# Altium footprint library PcbLib1.PcbLib: 34 footprints (part 1 of 3)
Each footprint in its own frame and in the unit in brackets; x right, y up, seen from the top. Pads: shape width x height; smd on the part's side, far side on the other; paste and mask are expansions set on the pad; w line width, h text height; cw(c..) or ccw(c..) is an arc to the next point about the centre after c.
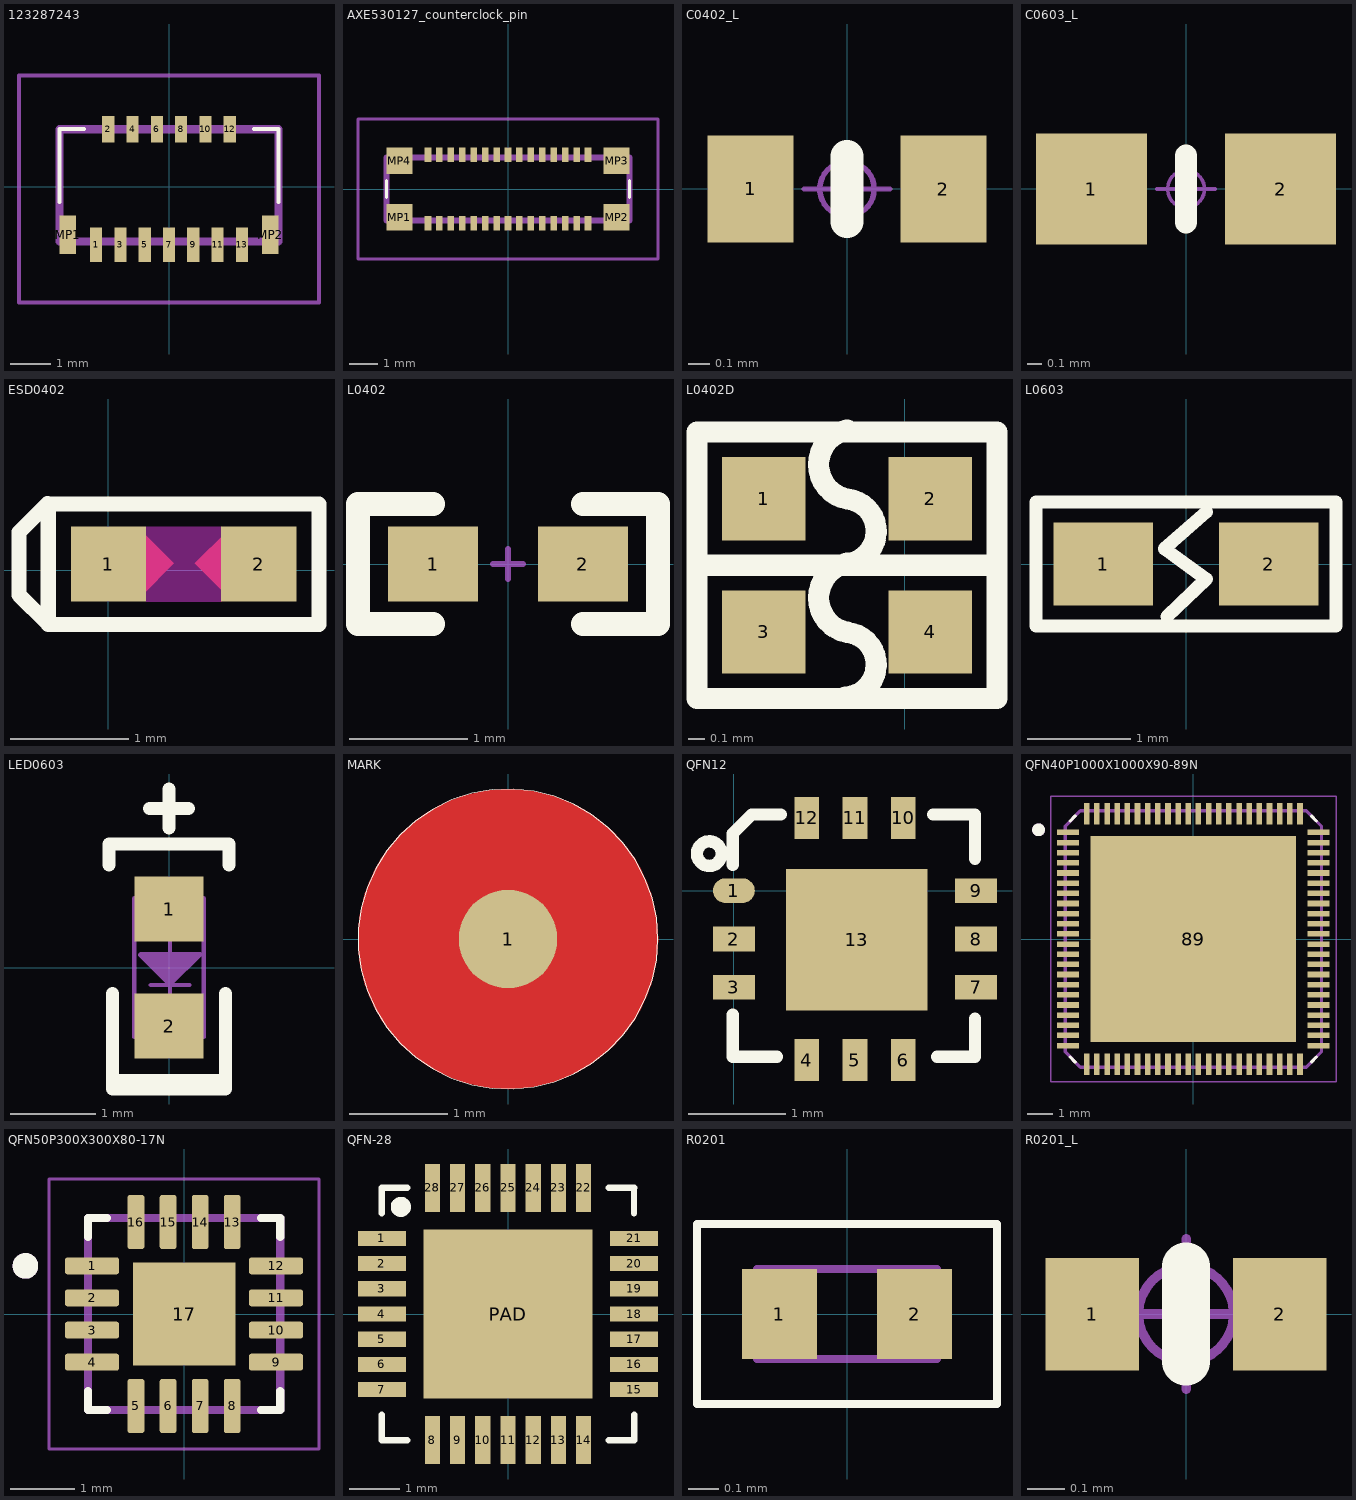
[diagram p0: the footprints below, top view; thin cyan lines are the x and y axes]

## 123287243 [mm]
pads (15):
  rect 0.3x0.85 smd: 1(-1.8,-1.425) 3(-1.2,-1.425) 5(-0.6,-1.425) 7(0,-1.425) 9(0.6,-1.425) 11(1.2,-1.425) 13(1.8,-1.425)
  rect 0.3x0.65 smd: 2(-1.5,1.425) 4(-0.9,1.425) 6(-0.3,1.425) 8(0.3,1.425) 10(0.9,1.425) 12(1.5,1.425)
  rect 0.4x0.95 smd: MP1(-2.5,-1.175) MP2(2.5,-1.175)
Top Overlay:
  lines w0.1: -2.7,-0.375 -2.7,1.425 -2.1,1.425 ; 2.1,1.425 2.7,1.425 2.7,-0.375
Mechanical 13:
  lines w0.2: -2.7,-1.345 -2.7,1.425 2.7,1.425 2.7,-1.345 -2.7,-1.345
Mechanical 15:
  lines w0.1: -3.7,-2.85 -3.7,2.75 3.7,2.75 3.7,-2.85 -3.7,-2.85
3D body "1-2328724-3.stp": height 1, standoff 0, extent -2.7,-1.957 2.7,1.52

## AXE530127_counterclock_pin [mm]
pads (34):
  rect 0.23x0.5 smd: 1(2.8,-1.2) 2(2.4,-1.2) 3(2,-1.2) 4(1.6,-1.2) 5(1.2,-1.2) 6(0.8,-1.2) 7(0.4,-1.2) 8(0,-1.2) 9(-0.4,-1.2) 10(-0.8,-1.2) 11(-1.2,-1.2) 12(-1.6,-1.2) 13(-2,-1.2) 14(-2.4,-1.2) 15(-2.8,-1.2) 16(-2.8,1.2) 17(-2.4,1.2) 18(-2,1.2) 19(-1.6,1.2) 20(-1.2,1.2) 21(-0.8,1.2) 22(-0.4,1.2) 23(0,1.2) 24(0.4,1.2) 25(0.8,1.2) 26(1.2,1.2) 27(1.6,1.2) 28(2,1.2) 29(2.4,1.2) 30(2.8,1.2)
  rect 0.9x0.92 smd: MP1(-3.8,-0.99) MP2(3.8,-0.99) MP3(3.8,0.99) MP4(-3.8,0.99)
Top Overlay:
  lines w0.1: -4.25,-0.3 -4.25,0.3 ; 4.25,-0.3 4.25,0.3
Mechanical 13:
  lines w0.2: -4.25,-1.1 4.25,-1.1 4.25,1.1 -4.25,1.1 -4.25,-1.1
Mechanical 15:
  lines w0.1: -5.25,-2.45 5.25,-2.45 5.25,2.45 -5.25,2.45 -5.25,-2.45
3D body "AXE530127.stp": height 1.07, standoff 0, extent -4.25,-1.427 4.25,1.427

## C0402_L [mm] "无极性贴片电容"
pads (2):
  rect 0.4x0.5 smd: 1(-0.45,0) 2(0.45,0)
Top Overlay:
  lines w0.152: 0,-0.152 0,0.152
Mechanical 15:
  circle w0.025: c0,0 r0.127
  lines w0.025: -0.2,0 0.2,0 ; 0,-0.2 0,0.2
3D body "c_0402.STEP": height 0.54, standoff 0.02, extent -0.5,-0.26 0.5,0.26

## C0603_L [mil] "无极性贴片电容"
pads (2):
  rect 30x30 smd: 1(-25.59,0) 2(25.59,0)
Top Overlay:
  lines w6: 0,-9 0,9
Mechanical 15:
  circle w1: c0,0 r5
  lines w1: -7.87,0 7.87,0 ; 0,-7.87 0,7.87
3D body "c_0603.STEP": height 32.89, standoff 0.61, extent -31.49,-16.14 31.51,16.14

## ESD0402 [mil]
pads (2):
  rect 25x25 smd: 1(0,2) 2(50,2)
Top Layer:
  region: 13,-4.5 19.5,2 12.75,8.75 12.75,-4 13,-4
  region: 11,-8.5 21.75,2.25 10.75,13.25 10.75,-8 11,-8
  region: 37.5,9 31,2.5 37.75,-4.25 37.75,8.5 37.5,8.5
  region: 39.5,13 28.75,2.25 39.75,-8.75 39.75,12.5 39.5,12.5
  lines w2: 5.5,-5 13,-5 ; 5.5,9.5 13,9.5 ; 7,-3.5 14.5,-3.5 ; 7,8 14.5,8 ; 8,6.5 15.5,6.5 ; 8.5,-2 16,-2 ; 9,5.5 16.5,5.5 ; 9.5,-0.5 17,-0.5 ; 10,4.5 17.5,4.5 ; 11,0.5 18.5,0.5 ; 11.5,3.5 19,3.5 ; 12,1.5 19.5,1.5 ; 12.5,2.5 20,2.5 ; 30.5,2 38,2 ; 31,3 38.5,3 ; 31.5,1 39,1 ; 32,4 39.5,4 ; 33,0 40.5,0 ; 33.5,5 41,5 ; 34,-1 41.5,-1 ; 34.5,6.5 42,6.5 ; 35,-2 42.5,-2 ; 36,-3.5 43.5,-3.5 ; 36,8 43.5,8 ; 37.5,-5 45,-5 ; 37.5,9.5 45,9.5
Top Layer keep-out:
  region: 12.5,14.5 37.5,14.5 37.5,-10.5 12.5,-10.5
Top Overlay:
  lines w5: -20.28,-17.69 -29.72,-8.24 -29.72,12.63 -20.28,22.08 ; -20,-18 70,-18 70,22 -20,22 -20,-18
Top Solder:
  region: -14.76,17.35 -14.76,-13.35 15.94,-13.35 15.94,-9.02 21.06,-3.91 28.94,-3.91 33.86,-8.83 33.86,-13.35 65.16,-13.35 65.16,17.35 34.06,17.35 34.06,12.63 29.13,7.71 21.06,7.71 16.44,12.33 16.44,17.35
3D body: height 19.68, standoff 0, extent -5,-10 50,15

## L0402 [mil] "小功率贴片电感"
pads (2):
  rect 30x25 smd: 1(-25,0) 2(25,0)
Top Overlay:
  lines w8: -25,-20 -50,-20 -50,20 -40,20 -25,20 ; 25,-20 50,-20 50,20 25,20
Mechanical 15:
  lines w2: -5,0 5,0 ; 0,-5 0,5
3D body "l0402.STEP": height 19.68, standoff 0, extent -19.68,-9.84 19.69,9.85

## L0402D [mm]
pads (4):
  rect 0.5x0.5 smd: 1(-0.847,-0.625) 2(0.153,-0.625) 3(-0.847,-1.425) 4(0.153,-1.425)
Top Overlay:
  lines w0.127: -0.357,-1.816 ccw(c-0.367,-1.621) -0.346,-1.427 cw(c-0.307,-1.22) -0.346,-1.013 ; -0.346,-1.013 -0.357,-1.015 ccw(c-0.367,-0.821) -0.346,-0.627 cw(c-0.307,-0.42) -0.346,-0.213 ; -1.247,-1.025 -1.247,-0.225 0.553,-0.225 0.553,-1.025 ; -1.247,-1.025 -1.247,-1.825 0.553,-1.825 0.553,-1.025 ; -1.247,-1.025 0.553,-1.025
3D body: height 0.51, standoff 0, extent -1.143,-1.778 0.508,-0.254
3D body: height 0.25, standoff 0, extent -0.254,-1.143 -0.254,-1.143
3D body: height 0.25, standoff 0, extent -0.254,-1.143 -0.254,-1.143

## L0603 [mm]
pads (2):
  rect 0.965x0.8 smd mask+0.05: 1(-0.8,0) 2(0.8,0)
Top Overlay:
  lines w0.127: -0.185,-0.509 0.195,-0.145 -0.206,0.148 0.195,0.503 ; -1.45,-0.6 1.45,-0.6 1.45,0.6 -1.45,0.6 -1.45,-0.6

## LED0603 [mil]
pads (2):
  rect 32x30 smd mask+2: 1(0,27) 2(0,-27)
Top Overlay:
  lines w6: -27.6,47.3 -27.6,57.1 27.6,57.1 27.6,47.3 ; -26,-51 -26,-56 26,-56 26,-52 ; -26,-12 -26,-52 26,-52 ; -9.11,73.5 8.89,73.5 ; -0.11,64.5 -0.11,82.5 ; 26,-12 26,-52
Mechanical 1:
  lines w2: -12.5,-26 -12.5,-29.5 ; -9,-29.5 -12.5,-29.5 ; -8.5,-25.5 -12.5,-29.5 ; -8.5,-8 9.5,-8 ; -8.5,5.5 9.5,5.5 ; -5,-26 -5,-29.5 ; -1.5,-29.5 -5,-29.5 ; -1,-25.5 -5,-29.5 ; 0.3,1.2 0.3,1.9 3.1,1.9 3.6,2.5 -1.8,2.5 -2.2,2.1 0.3,-0.3 1.4,-0.3 5.2,3.5 -5,3.5 -5,3.2 -0.2,-1.6 2.2,-1.6 7.5,3.7 6.8,4.4 -7.9,4.4 -0.2,-3.3 1.9,-3.3 9.8,4.6 9.1,5.3 -10.7,5.3 -10.7,4.8 -10.2,4.2 -10.2,5.6 -9.6,6.2 ; 0.5,-17 0.5,1 ; 0.5,-3.5 0.5,14.5 ; 4,-26 4,-29.5 ; 7.5,-29.5 4,-29.5 ; 8,-25.5 4,-29.5 ; 10,-26 10,-29.5 ; 13.5,-29.5 10,-29.5 ; 14,-25.5 10,-29.5 ; -9.6,6.2 -9.6,4.1 0.1,-5.6 0.5,-5.6 11.5,5.5 10.7,6.2 -13.1,6.2 -13.4,6 -13.4,5.9 0.3,-7.8 0.4,-7.8 14.4,6.2 -9.6,6.2 ; -16,-32 -16,32 16,32 16,-32 -16,-32

## MARK [mm]
pads (1):
  round 1 smd mask+0.05: 1(0,0)
Top Layer:
  pour cut-out: 1.524,0 1.523,0.066 1.519,0.133 1.511,0.199 1.501,0.265 1.488,0.33 1.472,0.395 1.454,0.458 1.432,0.521 1.408,0.583 1.382,0.644 1.352,0.704 1.32,0.762 1.286,0.819 1.249,0.874 1.209,0.928 1.168,0.98 1.124,1.03 1.078,1.078 1.03,1.124 0.98,1.168 0.928,1.209 0.874,1.249 0.819,1.286 0.762,1.32 0.704,1.352 0.644,1.382 0.583,1.408 0.521,1.432 0.458,1.454 0.395,1.472 0.33,1.488 0.265,1.501 0.199,1.511 0.133,1.519 0.066,1.523 0,1.524 -0.066,1.523 -0.133,1.519 -0.199,1.511 -0.265,1.501 -0.33,1.488 -0.395,1.472 -0.458,1.454 -0.521,1.432 -0.583,1.408 -0.644,1.382 -0.704,1.352 -0.762,1.32 -0.819,1.286 -0.874,1.249 -0.928,1.209 -0.98,1.168 -1.03,1.124 -1.078,1.078 -1.124,1.03 -1.168,0.98 -1.209,0.928 -1.249,0.874 -1.286,0.819 -1.32,0.762 -1.352,0.704 -1.382,0.644 -1.408,0.583 -1.432,0.521 -1.454,0.458 -1.472,0.395 -1.488,0.33 -1.501,0.265 -1.511,0.199 -1.519,0.133 -1.523,0.066 -1.524,0 -1.523,-0.066 -1.519,-0.133 -1.511,-0.199 -1.501,-0.265 -1.488,-0.33 -1.472,-0.395 -1.454,-0.458 -1.432,-0.521 -1.408,-0.583 -1.382,-0.644 -1.352,-0.704 -1.32,-0.762 -1.286,-0.819 -1.249,-0.874 -1.209,-0.928 -1.168,-0.98 -1.124,-1.03 -1.078,-1.078 -1.03,-1.124 -0.98,-1.168 -0.928,-1.209 -0.874,-1.249 -0.819,-1.286 -0.762,-1.32 -0.704,-1.352 -0.644,-1.382 -0.583,-1.408 -0.521,-1.432 -0.458,-1.454 -0.395,-1.472 -0.33,-1.488 -0.265,-1.501 -0.199,-1.511 -0.133,-1.519 -0.066,-1.523 0,-1.524 0.066,-1.523 0.133,-1.519 0.199,-1.511 0.265,-1.501 0.33,-1.488 0.395,-1.472 0.458,-1.454 0.521,-1.432 0.583,-1.408 0.644,-1.382 0.704,-1.352 0.762,-1.32 0.819,-1.286 0.874,-1.249 0.928,-1.209 0.98,-1.168 1.03,-1.124 1.078,-1.078 1.124,-1.03 1.168,-0.98 1.209,-0.928 1.249,-0.874 1.286,-0.819 1.32,-0.762 1.352,-0.704 1.382,-0.644 1.408,-0.583 1.432,-0.521 1.454,-0.458 1.472,-0.395 1.488,-0.33 1.501,-0.265 1.511,-0.199 1.519,-0.133 1.523,-0.066
Top Overlay:
  circle w0: c0,0 r1.524

## QFN12 [mil]
pads (13):
  oval 17x10 smd: 1(0,0)
  rect 17x10 smd: 2(0,-19.68) 3(0,-39.37) 7(98.43,-39.37) 8(98.43,-19.68) 9(98.43,0)
  rect 10x17 smd: 4(29.53,-68.9) 5(49.21,-68.9) 6(68.9,-68.9) 10(68.9,29.53) 11(49.21,29.53) 12(29.53,29.53)
  rect 57.48x57.48 smd: 13(50,-20)
Top Layer keep-out:
  region: 35,-20
  region: 45,-10
  region: 45,-10
Top Overlay:
  circle w5: c-10,15 r5
  lines w5: -0.45,-50.45 -0.45,-67.51 17.51,-67.51 ; -0.45,10.45 -0.45,23.18 7.28,30.92 19.08,30.92 ; 80.92,30.92 97.97,30.92 97.97,12.97 ; 82.51,-67.51 97.97,-67.51 97.97,-52.03
3D body: height 25, standoff 0, extent 0,-65 100,30

## QFN40P1000X1000X90-89N [mm]
pads (89):
  rect 0.86x0.22 smd: 1(-4.935,4.2) 2(-4.935,3.8) 3(-4.935,3.4) 4(-4.935,3) 5(-4.935,2.6) 6(-4.935,2.2) 7(-4.935,1.8) 8(-4.935,1.4) 9(-4.935,1) 10(-4.935,0.6) 11(-4.935,0.2) 12(-4.935,-0.2) 13(-4.935,-0.6) 14(-4.935,-1) 15(-4.935,-1.4) 16(-4.935,-1.8) 17(-4.935,-2.2) 18(-4.935,-2.6) 19(-4.935,-3) 20(-4.935,-3.4) 21(-4.935,-3.8) 22(-4.935,-4.2) 45(4.935,-4.2) 46(4.935,-3.8) 47(4.935,-3.4) 48(4.935,-3) 49(4.935,-2.6) 50(4.935,-2.2) 51(4.935,-1.8) 52(4.935,-1.4) 53(4.935,-1) 54(4.935,-0.6) 55(4.935,-0.2) 56(4.935,0.2) 57(4.935,0.6) 58(4.935,1) 59(4.935,1.4) 60(4.935,1.8) 61(4.935,2.2) 62(4.935,2.6) 63(4.935,3) 64(4.935,3.4) 65(4.935,3.8) 66(4.935,4.2)
  rect 0.22x0.86 smd: 23(-4.2,-4.935) 24(-3.8,-4.935) 25(-3.4,-4.935) 26(-3,-4.935) 27(-2.6,-4.935) 28(-2.2,-4.935) 29(-1.8,-4.935) 30(-1.4,-4.935) 31(-1,-4.935) 32(-0.6,-4.935) 33(-0.2,-4.935) 34(0.2,-4.935) 35(0.6,-4.935) 36(1,-4.935) 37(1.4,-4.935) 38(1.8,-4.935) 39(2.2,-4.935) 40(2.6,-4.935) 41(3,-4.935) 42(3.4,-4.935) 43(3.8,-4.935) 44(4.2,-4.935) 67(4.2,4.935) 68(3.8,4.935) 69(3.4,4.935) 70(3,4.935) 71(2.6,4.935) 72(2.2,4.935) 73(1.8,4.935) 74(1.4,4.935) 75(1,4.935) 76(0.6,4.935) 77(0.2,4.935) 78(-0.2,4.935) 79(-0.6,4.935) 80(-1,4.935) 81(-1.4,4.935) 82(-1.8,4.935) 83(-2.2,4.935) 84(-2.6,4.935) 85(-3,4.935) 86(-3.4,4.935) 87(-3.8,4.935) 88(-4.2,4.935)
  rect 8.1x8.1 smd paste-2.14: 89(0,0)
Top Overlay:
  circle w0.3: c-6.1,4.3 r0.1
  lines w0.127: -4.85,-4.65 -4.65,-4.85 ; -4.85,4.65 -4.65,4.85 ; 4.65,-4.85 4.85,-4.65 ; 4.65,4.85 4.85,4.65
Top Paste:
  region: -2.48,-3.835 -3.8,-3.835 -3.8,-2.515 -2.48,-2.515
  region: 0.678,-3.835 -0.643,-3.835 -0.643,-2.515 0.678,-2.515
  region: 3.835,-3.835 2.515,-3.835 2.515,-2.515 3.835,-2.515
  region: 3.835,-0.648 2.515,-0.648 2.515,0.673 3.835,0.673
  region: -2.48,-0.648 -3.8,-0.648 -3.8,0.673 -2.48,0.673
  region: 3.835,2.54 2.515,2.54 2.515,3.86 3.835,3.86
  region: 0.678,2.54 -0.643,2.54 -0.643,3.86 0.678,3.86
  region: -2.48,2.54 -3.8,2.54 -3.8,3.86 -2.48,3.86
Mechanical 13:
  circle w0.3: c-6.1,4.3 r0.1
  lines w0.127: -5.05,-4.45 -4.45,-5.05 4.45,-5.05 5.05,-4.45 5.05,4.45 4.45,5.05 -4.45,5.05 -5.05,4.45 -5.05,-4.45
Mechanical 15:
  lines w0.05: -5.62,-5.62 -5.62,5.62 5.62,5.62 5.62,-5.62 -5.62,-5.62

## QFN50P300X300X80-17N [mm]
pads (17):
  rrect25% 0.84x0.26 smd: 1(-1.435,0.75) 2(-1.435,0.25) 3(-1.435,-0.25) 4(-1.435,-0.75) 9(1.435,-0.75) 10(1.435,-0.25) 11(1.435,0.25) 12(1.435,0.75)
  rrect25% 0.26x0.84 smd: 5(-0.75,-1.435) 6(-0.25,-1.435) 7(0.25,-1.435) 8(0.75,-1.435) 13(0.75,1.435) 14(0.25,1.435) 15(-0.25,1.435) 16(-0.75,1.435)
  rect 1.6x1.6 smd paste-2: 17(0,0)
Top Overlay:
  circle w0.2: c-2.475,0.75 r0.1
  lines w0.127: -1.5,-1.2 -1.5,-1.5 -1.2,-1.5 ; -1.5,1.2 -1.5,1.5 -1.2,1.5 ; 1.2,-1.5 1.5,-1.5 1.5,-1.2 ; 1.2,1.5 1.5,1.5 1.5,1.2
Top Paste:
  region: 0.51,-0.51 -0.51,-0.51 -0.51,0.51 0.51,0.51
Mechanical 13:
  circle w0.2: c-2.475,0.75 r0.1
  lines w0.127: -1.5,-1.5 -1.5,1.5 1.5,1.5 1.5,-1.5 -1.5,-1.5
Mechanical 15:
  lines w0.05: -2.105,-2.105 -2.105,2.105 2.105,2.105 2.105,-2.105 -2.105,-2.105

## QFN-28 [mm]
pads (29):
  rect 0.95x0.3 smd: 1(-2.5,1.5) 2(-2.5,1) 3(-2.5,0.5) 4(-2.5,0) 5(-2.5,-0.5) 6(-2.5,-1) 7(-2.5,-1.5) 15(2.5,-1.5) 16(2.5,-1) 17(2.5,-0.5) 18(2.5,0) 19(2.5,0.5) 20(2.5,1) 21(2.5,1.5)
  rect 0.3x0.95 smd: 8(-1.5,-2.5) 9(-1,-2.5) 10(-0.5,-2.5) 11(0,-2.5) 12(0.5,-2.5) 13(1,-2.5) 14(1.5,-2.5) 22(1.5,2.5) 23(1,2.5) 24(0.5,2.5) 25(0,2.5) 26(-0.5,2.5) 27(-1,2.5) 28(-1.5,2.5)
  rect 3.35x3.35 smd: PAD(0,0)
Top Overlay:
  circle w0.2: c-2.125,2.125 r0.1
  lines w0.125: 2.5,2 2.5,2.5
  lines w0.127: -2.5,-2 -2.5,-2.5 -2,-2.5 ; -2.5,2 -2.5,2.5 -2,2.5 ; 2,-2.5 2.5,-2.5 2.5,-2 ; 2,2.5 2.5,2.5

## R0201 [mm]
height 0.33
pads (2):
  rect 0.25x0.3 smd paste-0.025 mask+0.05: 1(-0.225,0) 2(0.225,0)
Top Overlay:
  lines w0.025: -0.5,-0.3 0.5,-0.3 0.5,0.3 -0.5,0.3 -0.5,-0.3
Top Assembly:
  lines w0.025: -0.3,-0.15 0.3,-0.15 0.3,0.15 -0.3,0.15 -0.3,-0.15

## R0201_L [mm] "1/20W贴片电阻"
pads (2):
  rect 0.25x0.3 smd: 1(-0.25,0) 2(0.25,0)
Top Overlay:
  lines w0.127: 0,-0.127 0,0.127
Mechanical 15:
  circle w0.025: c0,0 r0.127
  lines w0.025: -0.2,0 0.2,0 ; 0,-0.2 0,0.2
3D body "R0201.STEP": height 0.23, standoff 0, extent -0.3,-0.15 0.3,0.15